# Altium integrated library Maxim Sensors.IntLib: 1171 symbols (part 24 of 61)
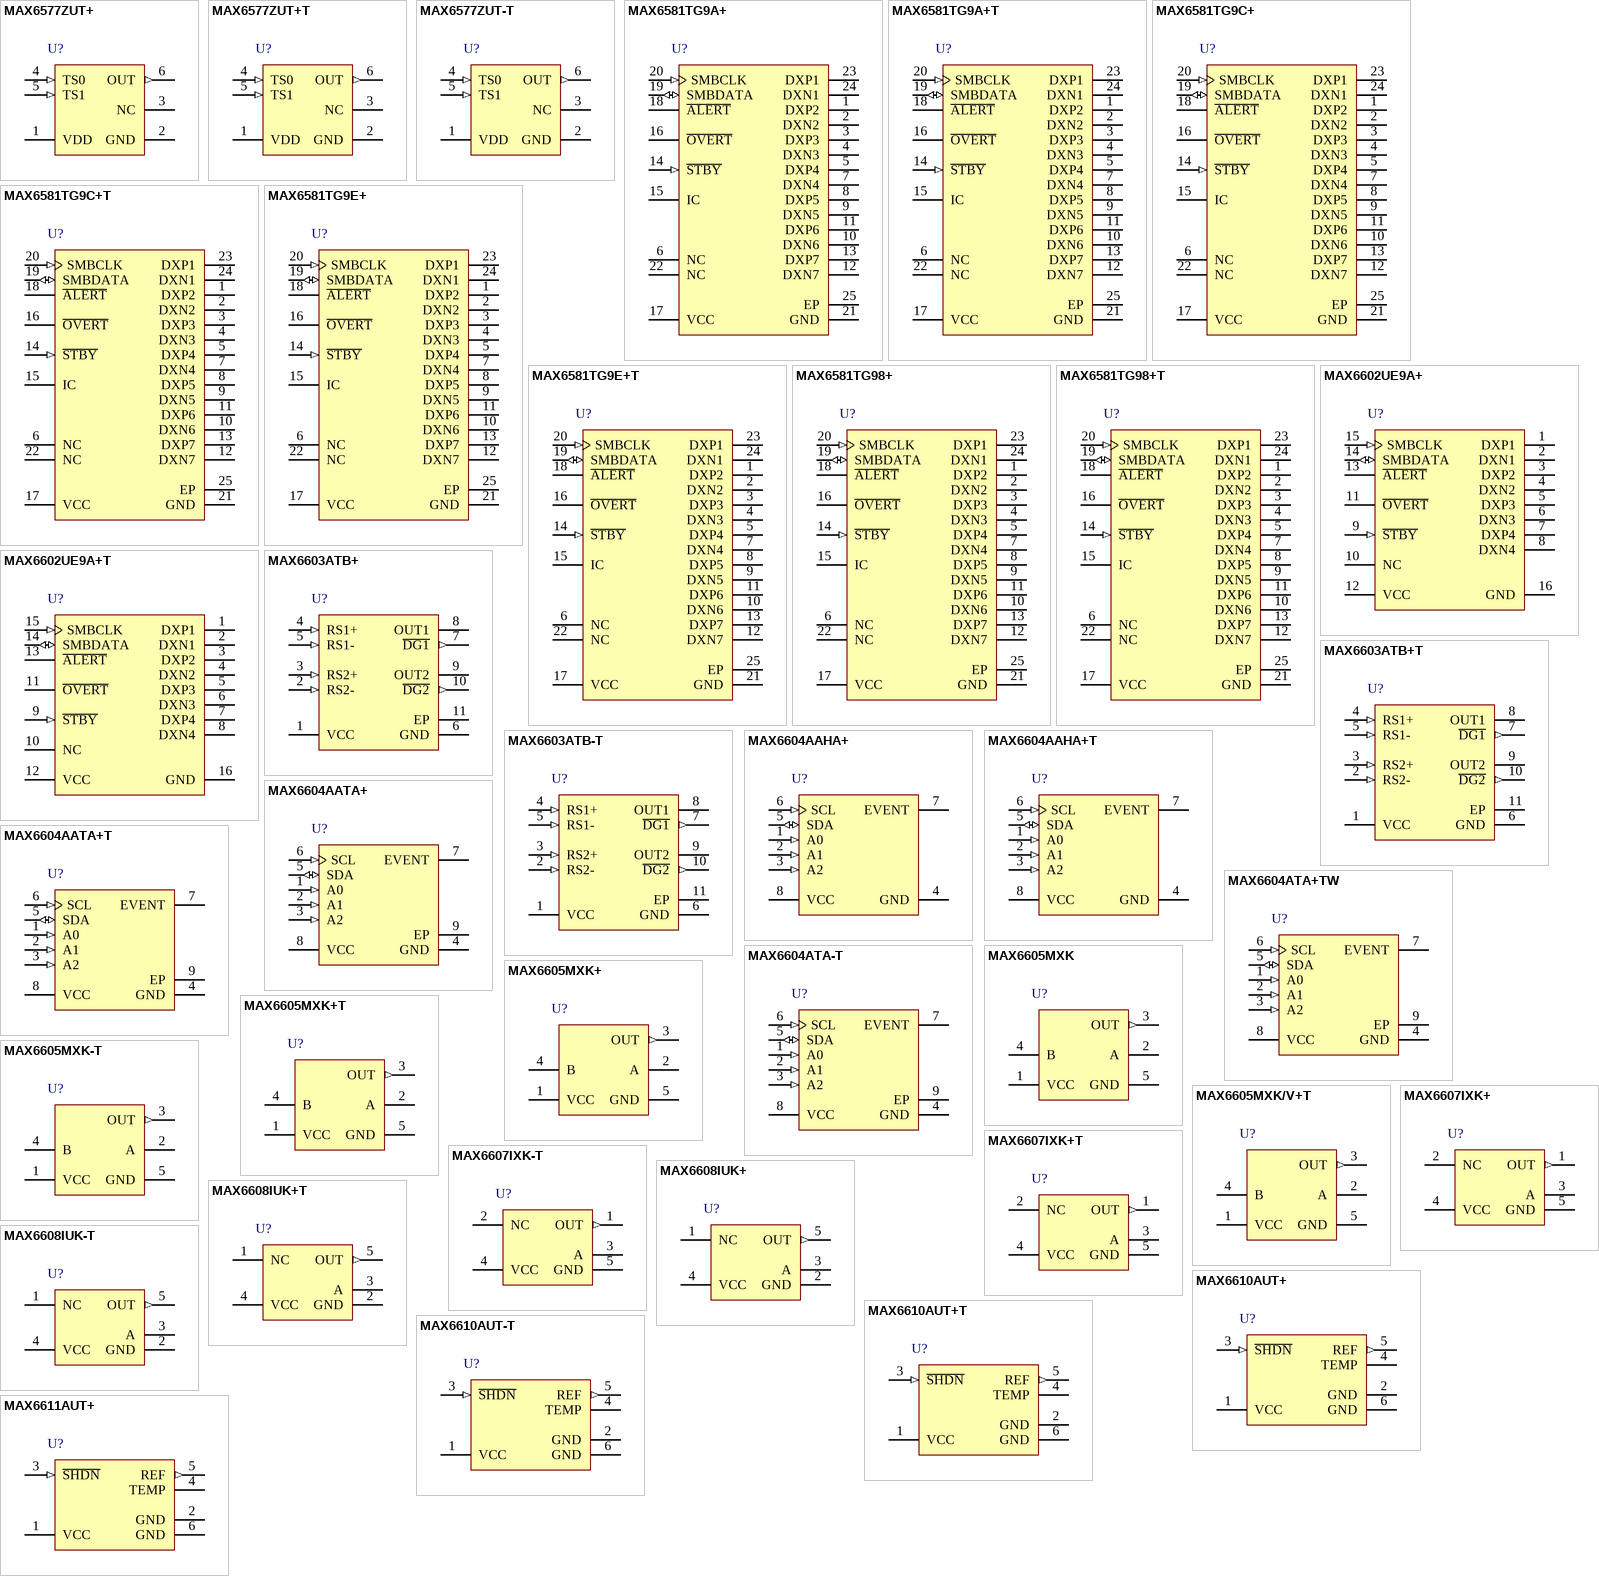
[diagram p56: symbols MAX6577ZUT+ to MAX6611AUT+]

## MAX6581TG9E+T
designator U?
+ / -1 degC Accurate 8-Channel Temperature Sensor, 8, 11 Bits Temperature Resolution, -40 to 125 degC, 24-Pin QFN (T2444+4), Pb-Free, Tape and Reel; Generic Part Number: MAX6581; PartNumber: MAX6581TG9E+T; Alarm Output: Alert, Overt; Functions: Dual Temperature Alarms, Multi-Channel Temperature Monitor ,Remote & Local Sensor; Interface: 2-Wire/I2C/SMBus; Parasite Pwr.: No; DatasheetVersion: Rev. 0; PackageVersion: Rev. L, 04/2012; PackageReference: T2444+4; PackageDescription: 24-Pin Thin Quad Flatpack, No Leads, Body 4 x 4 mm, Pitch 0.5 mm; Supplier 1: Digi-Key; Supplier Part Number 1: MAX6581TG9E+T-ND; Supplier 2: Mouser; Supplier Part Number 2: 700-MAX6581TG9E+T; Packing: Tape and Reel; Mounting Technology: Surface Mount; Code_JEDEC: MO-220; ComponentLink1Description: Manufacturer URL; ComponentLink1URL: http://www.maximintegrated.com/; ComponentLink2Description: Datasheet; ComponentLink2URL: http://datasheets.maximintegrated.com/en/ds/MAX6581.pdf; ComponentLink3Description: Package Specification; ComponentLink3URL: http://pdfserv.maximintegrated.com/package_dwgs/21-0139.PDF
footprint MAXM-T2444+4_N (QFN, 24-Leads, Body 4x3.9mm, Pitch 0.5mm, Thermal Pad 2.54x2.54mm, IPC Medium Density)
footprint MAXM-T2444+4_L (QFN, 24-Leads, Body 4x3.9mm, Pitch 0.5mm, Thermal Pad 2.54x2.54mm, IPC High Density)
footprint MAXM-T2444+4_M (QFN, 24-Leads, Body 4x3.9mm, Pitch 0.5mm, Thermal Pad 2.54x2.54mm, IPC Low Density)
pins: 1 DXP2 "Combined Current Source and ADC Positive Input for Channel 2 Remote Diode. Connect DXP2 to the anode of a remote-diode-connected, temperature-sensing transistor. Leave DXP2 unconnected or connect to DXN2 if a remote diode is (See Datasheet)", 2 DXN2 "Cathode Input for Channel 2 Remote Diode. Connect the cathode of the channel 2 remote-diodeconnected transistor to DXN2. If the channel 2 remote transistor is a substrate pnp (e.g., on a CPU die), connect the base of the pnp (See Datasheet)", 3 DXP3 "Combined Current Source and ADC Positive Input for Channel 3 Remote Diode. Connect DXP3 to the anode of a remote-diode-connected, temperature-sensing transistor. Leave DXP3 unconnected or connect to DXN3 if a remote diode is (See Datasheet)", 4 DXN3 "Cathode Input for Channel 3 Remote Diode. Connect the cathode of the channel 3 remote-diodeconnected transistor to DXN3. If the channel 3 remote transistor is a substrate pnp (e.g., on a CPU die), connect the base of the pnp (See Datasheet)", 5 DXP4 "Combined Current Source and ADC Positive Input for Channel 4 Remote Diode. Connect DXP4 to the anode of a remote-diode-connected, temperature-sensing transistor. Leave DXP4 unconnected or connect to DXN4 if a remote diode is (See Datasheet)", 6 NC "No Connection. Connect to other N.C. or leave unconnected", 7 DXN4 "Cathode Input for Channel 4 Remote Diode. Connect the cathode of the channel 4 remote-diodeconnected transistor to DXN4. If the channel 4 remote transistor is a substrate pnp (e.g., on a CPU die), connect the base of the pnp (See Datasheet)", 8 DXP5 "Combined Current Source and ADC Positive Input for Channel 5 Remote Diode. Connect DXP5 to the anode of a remote-diode-connected, temperature-sensing transistor. Leave DXP5 unconnected or connect to DXN5 if a remote diode is (See Datasheet)", 9 DXN5 "Cathode Input for Channel 5 Remote Diode. Connect the cathode of the channel 5 remote-diodeconnected transistor to DXN5. If the channel 5 remote transistor is a substrate pnp (e.g., on a CPU die), connect the base of the pnp (See Datasheet)", 10 DXN6 "Cathode Input for Channel 6 Remote Diode. Connect the cathode of the channel 6 remote-diodeconnected transistor to DXN6. If the channel 6 remote transistor is a substrate pnp (e.g., on a CPU die), connect the base of the pnp (See Datasheet)", 11 DXP6 "Combined Current Source and ADC Positive Input for Channel 6 Remote Diode. Connect DXP6 to the anode of a remote-diode-connected, temperature-sensing transistor. Leave DXP6 unconnected or connect to DXN6 if a remote diode is (See Datasheet)", 12 DXN7 "Cathode Input for Channel 7 Remote Diode. Connect the cathode of the channel 7 remote-diodeconnected transistor to DXN7. If the channel 7 remote transistor is a substrate pnp (e.g., on a CPU die), connect the base of the pnp (See Datasheet)", 13 DXP7 "Combined Current Source and ADC Positive Input for Channel 7 Remote Diode. Connect DXP7 to the anode of a remote-diode-connected, temperature-sensing transistor. Leave DXP7 unconnected or connect to DXN7 if a remote diode is (See Datasheet)", 14 ~{STBY} (in) "Active-Low Standby Input. Drive S\T\B\Y\ logic-low to place the MAX6581 in standby mode, or logichigh for normal mode. Temperature and threshold data are retained in standby mode.", 15 IC "Internally Connected. I.C. is internally connected to VCC. Connect I.C. to VCC or leave unconnected", 16 ~{OVERT} (oc) "Overtemperature Active-Low, Open-Drain Output. O\V\E\R\T\ asserts low when the temperature of any remote channel exceeds the programmed threshold limit.", 17 VCC (power) "Supply Voltage Input. Bypass to GND with a 0.1FF capacitor.", 18 ~{ALERT} (oc) "SMBus Alert (Interrupt), Active-Low, Open-Drain Output. A\L\E\R\T\ asserts low when the temperature of any channel crosses a programmed A\L\E\R\T\ high or low threshold.", 19 SMBDATA (io) "SMBus Serial-Data Input/Output. Connect SMBDATA to a pullup resistor.", 20 SMBCLK (in) "SMBus Serial-Clock Input. Connect SMBCLK to a pullup resistor.", 21 GND (power) "Ground", 22 NC "No Connection. Connect to other N.C. or leave unconnected", 23 DXP1 "Combined Current Source and ADC Positive Input for Channel 1 Remote Diode. Connect DXP1 to the anode of a remote-diode-connected, temperature-sensing transistor. Leave DXP1 unconnected or connect to DXN1 if a remote diode is (See Datasheet)", 24 DXN1 "Cathode Input for Channel 1 Remote Diode. Connect the cathode of the channel 1 remote-diodeconnected transistor to DXN1. If the channel 1 remote transistor is a substrate pnp (e.g., on a CPU die), connect the base of the pnp (See Datasheet)", 25 EP (power) "Exposed Pad. Connect EP to GND"

## MAX6581TG98+
designator U?
+ / -1 degC Accurate 8-Channel Temperature Sensor, 8, 11 Bits Temperature Resolution, -40 to 125 degC, 24-Pin QFN (T2444+4), Pb-Free; Generic Part Number: MAX6581; PartNumber: MAX6581TG98+; Alarm Output: Alert, Overt; Functions: Dual Temperature Alarms, Multi-Channel Temperature Monitor ,Remote & Local Sensor; Interface: 2-Wire/I2C/SMBus; Parasite Pwr.: No; DatasheetVersion: Rev. 0; PackageVersion: Rev. L, 04/2012; PackageReference: T2444+4; PackageDescription: 24-Pin Thin Quad Flatpack, No Leads, Body 4 x 4 mm, Pitch 0.5 mm; Supplier 1: Digi-Key; Supplier Part Number 1: MAX6581TG98+-ND; Supplier 2: Mouser; Supplier Part Number 2: 700-MAX6581TG98+; Mounting Technology: Surface Mount; Code_JEDEC: MO-220; ComponentLink1Description: Manufacturer URL; ComponentLink1URL: http://www.maximintegrated.com/; ComponentLink2Description: Datasheet; ComponentLink2URL: http://datasheets.maximintegrated.com/en/ds/MAX6581.pdf; ComponentLink3Description: Package Specification; ComponentLink3URL: http://pdfserv.maximintegrated.com/package_dwgs/21-0139.PDF
footprint MAXM-T2444+4_N (QFN, 24-Leads, Body 4x3.9mm, Pitch 0.5mm, Thermal Pad 2.54x2.54mm, IPC Medium Density)
footprint MAXM-T2444+4_L (QFN, 24-Leads, Body 4x3.9mm, Pitch 0.5mm, Thermal Pad 2.54x2.54mm, IPC High Density)
footprint MAXM-T2444+4_M (QFN, 24-Leads, Body 4x3.9mm, Pitch 0.5mm, Thermal Pad 2.54x2.54mm, IPC Low Density)
pins: 1 DXP2 "Combined Current Source and ADC Positive Input for Channel 2 Remote Diode. Connect DXP2 to the anode of a remote-diode-connected, temperature-sensing transistor. Leave DXP2 unconnected or connect to DXN2 if a remote diode is (See Datasheet)", 2 DXN2 "Cathode Input for Channel 2 Remote Diode. Connect the cathode of the channel 2 remote-diodeconnected transistor to DXN2. If the channel 2 remote transistor is a substrate pnp (e.g., on a CPU die), connect the base of the pnp (See Datasheet)", 3 DXP3 "Combined Current Source and ADC Positive Input for Channel 3 Remote Diode. Connect DXP3 to the anode of a remote-diode-connected, temperature-sensing transistor. Leave DXP3 unconnected or connect to DXN3 if a remote diode is (See Datasheet)", 4 DXN3 "Cathode Input for Channel 3 Remote Diode. Connect the cathode of the channel 3 remote-diodeconnected transistor to DXN3. If the channel 3 remote transistor is a substrate pnp (e.g., on a CPU die), connect the base of the pnp (See Datasheet)", 5 DXP4 "Combined Current Source and ADC Positive Input for Channel 4 Remote Diode. Connect DXP4 to the anode of a remote-diode-connected, temperature-sensing transistor. Leave DXP4 unconnected or connect to DXN4 if a remote diode is (See Datasheet)", 6 NC "No Connection. Connect to other N.C. or leave unconnected", 7 DXN4 "Cathode Input for Channel 4 Remote Diode. Connect the cathode of the channel 4 remote-diodeconnected transistor to DXN4. If the channel 4 remote transistor is a substrate pnp (e.g., on a CPU die), connect the base of the pnp (See Datasheet)", 8 DXP5 "Combined Current Source and ADC Positive Input for Channel 5 Remote Diode. Connect DXP5 to the anode of a remote-diode-connected, temperature-sensing transistor. Leave DXP5 unconnected or connect to DXN5 if a remote diode is (See Datasheet)", 9 DXN5 "Cathode Input for Channel 5 Remote Diode. Connect the cathode of the channel 5 remote-diodeconnected transistor to DXN5. If the channel 5 remote transistor is a substrate pnp (e.g., on a CPU die), connect the base of the pnp (See Datasheet)", 10 DXN6 "Cathode Input for Channel 6 Remote Diode. Connect the cathode of the channel 6 remote-diodeconnected transistor to DXN6. If the channel 6 remote transistor is a substrate pnp (e.g., on a CPU die), connect the base of the pnp (See Datasheet)", 11 DXP6 "Combined Current Source and ADC Positive Input for Channel 6 Remote Diode. Connect DXP6 to the anode of a remote-diode-connected, temperature-sensing transistor. Leave DXP6 unconnected or connect to DXN6 if a remote diode is (See Datasheet)", 12 DXN7 "Cathode Input for Channel 7 Remote Diode. Connect the cathode of the channel 7 remote-diodeconnected transistor to DXN7. If the channel 7 remote transistor is a substrate pnp (e.g., on a CPU die), connect the base of the pnp (See Datasheet)", 13 DXP7 "Combined Current Source and ADC Positive Input for Channel 7 Remote Diode. Connect DXP7 to the anode of a remote-diode-connected, temperature-sensing transistor. Leave DXP7 unconnected or connect to DXN7 if a remote diode is (See Datasheet)", 14 ~{STBY} (in) "Active-Low Standby Input. Drive S\T\B\Y\ logic-low to place the MAX6581 in standby mode, or logichigh for normal mode. Temperature and threshold data are retained in standby mode.", 15 IC "Internally Connected. I.C. is internally connected to VCC. Connect I.C. to VCC or leave unconnected", 16 ~{OVERT} (oc) "Overtemperature Active-Low, Open-Drain Output. O\V\E\R\T\ asserts low when the temperature of any remote channel exceeds the programmed threshold limit.", 17 VCC (power) "Supply Voltage Input. Bypass to GND with a 0.1FF capacitor.", 18 ~{ALERT} (oc) "SMBus Alert (Interrupt), Active-Low, Open-Drain Output. A\L\E\R\T\ asserts low when the temperature of any channel crosses a programmed A\L\E\R\T\ high or low threshold.", 19 SMBDATA (io) "SMBus Serial-Data Input/Output. Connect SMBDATA to a pullup resistor.", 20 SMBCLK (in) "SMBus Serial-Clock Input. Connect SMBCLK to a pullup resistor.", 21 GND (power) "Ground", 22 NC "No Connection. Connect to other N.C. or leave unconnected", 23 DXP1 "Combined Current Source and ADC Positive Input for Channel 1 Remote Diode. Connect DXP1 to the anode of a remote-diode-connected, temperature-sensing transistor. Leave DXP1 unconnected or connect to DXN1 if a remote diode is (See Datasheet)", 24 DXN1 "Cathode Input for Channel 1 Remote Diode. Connect the cathode of the channel 1 remote-diodeconnected transistor to DXN1. If the channel 1 remote transistor is a substrate pnp (e.g., on a CPU die), connect the base of the pnp (See Datasheet)", 25 EP (power) "Exposed Pad. Connect EP to GND"

## MAX6581TG98+T
designator U?
+ / -1 degC Accurate 8-Channel Temperature Sensor, 8, 11 Bits Temperature Resolution, -40 to 125 degC, 24-Pin QFN (T2444+4), Pb-Free, Tape and Reel; Generic Part Number: MAX6581; PartNumber: MAX6581TG98+T; Alarm Output: Alert, Overt; Functions: Dual Temperature Alarms, Multi-Channel Temperature Monitor ,Remote & Local Sensor; Interface: 2-Wire/I2C/SMBus; Parasite Pwr.: No; DatasheetVersion: Rev. 0; PackageVersion: Rev. L, 04/2012; PackageReference: T2444+4; PackageDescription: 24-Pin Thin Quad Flatpack, No Leads, Body 4 x 4 mm, Pitch 0.5 mm; Supplier 1: Digi-Key; Supplier Part Number 1: MAX6581TG98+T-ND; Supplier 2: Mouser; Supplier Part Number 2: 700-MAX6581TG98+T; Packing: Tape and Reel; Mounting Technology: Surface Mount; Code_JEDEC: MO-220; ComponentLink1Description: Manufacturer URL; ComponentLink1URL: http://www.maximintegrated.com/; ComponentLink2Description: Datasheet; ComponentLink2URL: http://datasheets.maximintegrated.com/en/ds/MAX6581.pdf; ComponentLink3Description: Package Specification; ComponentLink3URL: http://pdfserv.maximintegrated.com/package_dwgs/21-0139.PDF
footprint MAXM-T2444+4_N (QFN, 24-Leads, Body 4x3.9mm, Pitch 0.5mm, Thermal Pad 2.54x2.54mm, IPC Medium Density)
footprint MAXM-T2444+4_L (QFN, 24-Leads, Body 4x3.9mm, Pitch 0.5mm, Thermal Pad 2.54x2.54mm, IPC High Density)
footprint MAXM-T2444+4_M (QFN, 24-Leads, Body 4x3.9mm, Pitch 0.5mm, Thermal Pad 2.54x2.54mm, IPC Low Density)
pins: 1 DXP2 "Combined Current Source and ADC Positive Input for Channel 2 Remote Diode. Connect DXP2 to the anode of a remote-diode-connected, temperature-sensing transistor. Leave DXP2 unconnected or connect to DXN2 if a remote diode is (See Datasheet)", 2 DXN2 "Cathode Input for Channel 2 Remote Diode. Connect the cathode of the channel 2 remote-diodeconnected transistor to DXN2. If the channel 2 remote transistor is a substrate pnp (e.g., on a CPU die), connect the base of the pnp (See Datasheet)", 3 DXP3 "Combined Current Source and ADC Positive Input for Channel 3 Remote Diode. Connect DXP3 to the anode of a remote-diode-connected, temperature-sensing transistor. Leave DXP3 unconnected or connect to DXN3 if a remote diode is (See Datasheet)", 4 DXN3 "Cathode Input for Channel 3 Remote Diode. Connect the cathode of the channel 3 remote-diodeconnected transistor to DXN3. If the channel 3 remote transistor is a substrate pnp (e.g., on a CPU die), connect the base of the pnp (See Datasheet)", 5 DXP4 "Combined Current Source and ADC Positive Input for Channel 4 Remote Diode. Connect DXP4 to the anode of a remote-diode-connected, temperature-sensing transistor. Leave DXP4 unconnected or connect to DXN4 if a remote diode is (See Datasheet)", 6 NC "No Connection. Connect to other N.C. or leave unconnected", 7 DXN4 "Cathode Input for Channel 4 Remote Diode. Connect the cathode of the channel 4 remote-diodeconnected transistor to DXN4. If the channel 4 remote transistor is a substrate pnp (e.g., on a CPU die), connect the base of the pnp (See Datasheet)", 8 DXP5 "Combined Current Source and ADC Positive Input for Channel 5 Remote Diode. Connect DXP5 to the anode of a remote-diode-connected, temperature-sensing transistor. Leave DXP5 unconnected or connect to DXN5 if a remote diode is (See Datasheet)", 9 DXN5 "Cathode Input for Channel 5 Remote Diode. Connect the cathode of the channel 5 remote-diodeconnected transistor to DXN5. If the channel 5 remote transistor is a substrate pnp (e.g., on a CPU die), connect the base of the pnp (See Datasheet)", 10 DXN6 "Cathode Input for Channel 6 Remote Diode. Connect the cathode of the channel 6 remote-diodeconnected transistor to DXN6. If the channel 6 remote transistor is a substrate pnp (e.g., on a CPU die), connect the base of the pnp (See Datasheet)", 11 DXP6 "Combined Current Source and ADC Positive Input for Channel 6 Remote Diode. Connect DXP6 to the anode of a remote-diode-connected, temperature-sensing transistor. Leave DXP6 unconnected or connect to DXN6 if a remote diode is (See Datasheet)", 12 DXN7 "Cathode Input for Channel 7 Remote Diode. Connect the cathode of the channel 7 remote-diodeconnected transistor to DXN7. If the channel 7 remote transistor is a substrate pnp (e.g., on a CPU die), connect the base of the pnp (See Datasheet)", 13 DXP7 "Combined Current Source and ADC Positive Input for Channel 7 Remote Diode. Connect DXP7 to the anode of a remote-diode-connected, temperature-sensing transistor. Leave DXP7 unconnected or connect to DXN7 if a remote diode is (See Datasheet)", 14 ~{STBY} (in) "Active-Low Standby Input. Drive S\T\B\Y\ logic-low to place the MAX6581 in standby mode, or logichigh for normal mode. Temperature and threshold data are retained in standby mode.", 15 IC "Internally Connected. I.C. is internally connected to VCC. Connect I.C. to VCC or leave unconnected", 16 ~{OVERT} (oc) "Overtemperature Active-Low, Open-Drain Output. O\V\E\R\T\ asserts low when the temperature of any remote channel exceeds the programmed threshold limit.", 17 VCC (power) "Supply Voltage Input. Bypass to GND with a 0.1FF capacitor.", 18 ~{ALERT} (oc) "SMBus Alert (Interrupt), Active-Low, Open-Drain Output. A\L\E\R\T\ asserts low when the temperature of any channel crosses a programmed A\L\E\R\T\ high or low threshold.", 19 SMBDATA (io) "SMBus Serial-Data Input/Output. Connect SMBDATA to a pullup resistor.", 20 SMBCLK (in) "SMBus Serial-Clock Input. Connect SMBCLK to a pullup resistor.", 21 GND (power) "Ground", 22 NC "No Connection. Connect to other N.C. or leave unconnected", 23 DXP1 "Combined Current Source and ADC Positive Input for Channel 1 Remote Diode. Connect DXP1 to the anode of a remote-diode-connected, temperature-sensing transistor. Leave DXP1 unconnected or connect to DXN1 if a remote diode is (See Datasheet)", 24 DXN1 "Cathode Input for Channel 1 Remote Diode. Connect the cathode of the channel 1 remote-diodeconnected transistor to DXN1. If the channel 1 remote transistor is a substrate pnp (e.g., on a CPU die), connect the base of the pnp (See Datasheet)", 25 EP (power) "Exposed Pad. Connect EP to GND"

## MAX6602UE9A+
designator U?
Five-Channel Temperature Monitor, 11 Bits Temperature Resolution, -40 to 125 degC, 16-Pin SOP (U16+1), Pb-Free; Generic Part Number: MAX6602; PartNumber: MAX6602UE9A+; Alarm Output: Alert, Overt; Functions: Dual Temperature Alarms, Multi-Channel Temperature Monitor, Remote & Local Sensor; Interface: 2-Wire/I2C/SMBus; Parasite Pwr.: No; DatasheetVersion: Rev. 1; PackageVersion: Rev. L, 07/2010; PackageReference: U16+1; PackageDescription: 16-Pin Thin Shrink Small-Outline Package (U16+1), Body 5 x 4.4 mm, Pitch 0.65 mm; Supplier 1: Digi-Key; Supplier Part Number 1: MAX6602UE9A+-ND; Supplier 2: Mouser; Supplier Part Number 2: 700-MAX6602UE9A; Mounting Technology: Surface Mount; Code_JEDEC: MO-153; ComponentLink1Description: Manufacturer URL; ComponentLink1URL: http://www.maximintegrated.com/; ComponentLink2Description: Datasheet; ComponentLink2URL: http://datasheets.maximintegrated.com/en/ds/MAX6602.pdf; ComponentLink3Description: Package Specification; ComponentLink3URL: http://pdfserv.maximintegrated.com/package_dwgs/21-0066.PDF
footprint MAXM-U16+1_N (SOP, 16-Leads, Body 5x4.4mm, Pitch 0.65mm, IPC Medium Density)
footprint MAXM-U16+1_L (SOP, 16-Leads, Body 5x4.4mm, Pitch 0.65mm, IPC High Density)
footprint MAXM-U16+1_M (SOP, 16-Leads, Body 5x4.4mm, Pitch 0.65mm, IPC Low Density)
pins: 1 DXP1 "Combined Current Source and A/D Positive Input for Channel 1 Remote Transistor. Connect to the emitter of a low beta transistor. Leave unconnected or connect to VCC if no remote transistor is used. Place a 100pF capacitor (See Datasheet)", 2 DXN1 "Base Input for Channel 1 Remote Diode. Connect to the base of a pnp temperature-sensing transistor.", 3 DXP2 "Combined Current Source and A/D Positive Input for Channel 2 Remote Diode. Connect to the anode of a remote-diode-connected temperature-sensing transistor. Leave unconnected or connect to VCC if no remote diode is used. (See Datasheet)", 4 DXN2 "Cathode Input for Channel 2 Remote Diode. Connect the cathode of the channel 2 remote-diode-connected transistor to DXN2.", 5 DXP3 "Combined Current Source and A/D Positive Input for Channel 3 Remote Diode. Connect to the anode of a remote-diode-connected temperature-sensing transistor. Leave unconnected or connect to VCC if no remote diode is used. (See Datasheet)", 6 DXN3 "Cathode Input for Channel 3 Remote Diode. Connect the cathode of the channel 3 remote-diode-connected transistor to DXN3.", 7 DXP4 "Combined Current Source and A/D Positive Input for Channel 4 Remote Diode. Connect to the anode of a remote-diode-connected temperature-sensing transistor. Leave unconnected or connect to VCC if no remote diode is used. (See Datasheet)", 8 DXN4 "Cathode Input for Channel 4 Remote Diode. Connect the cathode of the channel 4 remote-diode-connected transistor to DXN4.", 9 ~{STBY} (in) "Active-Low Standby Input. Drive S\T\B\Y\ low to place the MAX6694 in standby mode, or high for operate mode. Temperature and threshold data are retained in standby mode.", 10 NC "No Connection. Must be connected to ground.", 11 ~{OVERT} (oc) "Overtemperature Active-Low, Open-Drain Output. O\V\E\R\T\ asserts low when the temperature of channels 1 and 4 exceeds the programmed threshold limit.", 12 VCC (power) "Supply Voltage Input. Bypass to GND with a 0.1uF capacitor.", 13 ~{ALERT} (oc) "SMBus Alert (Interrupt), Active-Low, Open-Drain Output. A\L\E\R\T\ asserts low when the temperature of any channel exceeds the programmed A\L\E\R\T\ threshold.", 14 SMBDATA (io) "SMBus Serial Data Input/Output. Connect to a pullup resistor.", 15 SMBCLK (in) "SMBus Serial Clock Input. Connect to a pullup resistor.", 16 GND (power) "Ground"

## MAX6602UE9A+T
designator U?
Five-Channel Temperature Monitor, 11 Bits Temperature Resolution, -40 to 125 degC, 16-Pin SOP (U16+1), Pb-Free, Tape and Reel; Generic Part Number: MAX6602; PartNumber: MAX6602UE9A+T; Alarm Output: Alert, Overt; Functions: Dual Temperature Alarms, Multi-Channel Temperature Monitor, Remote & Local Sensor; Interface: 2-Wire/I2C/SMBus; Parasite Pwr.: No; DatasheetVersion: Rev. 1; PackageVersion: Rev. L, 07/2010; PackageReference: U16+1; PackageDescription: 16-Pin Thin Shrink Small-Outline Package (U16+1), Body 5 x 4.4 mm, Pitch 0.65 mm; Supplier 1: Digi-Key; Supplier Part Number 1: MAX6602UE9A+T-ND; Supplier 2: Mouser; Supplier Part Number 2: 700-MAX6602UE9AT; Packing: Tape and Reel; Mounting Technology: Surface Mount; Code_JEDEC: MO-153; ComponentLink1Description: Manufacturer URL; ComponentLink1URL: http://www.maximintegrated.com/; ComponentLink2Description: Datasheet; ComponentLink2URL: http://datasheets.maximintegrated.com/en/ds/MAX6602.pdf; ComponentLink3Description: Package Specification; ComponentLink3URL: http://pdfserv.maximintegrated.com/package_dwgs/21-0066.PDF
footprint MAXM-U16+1_N (SOP, 16-Leads, Body 5x4.4mm, Pitch 0.65mm, IPC Medium Density)
footprint MAXM-U16+1_L (SOP, 16-Leads, Body 5x4.4mm, Pitch 0.65mm, IPC High Density)
footprint MAXM-U16+1_M (SOP, 16-Leads, Body 5x4.4mm, Pitch 0.65mm, IPC Low Density)
pins: 1 DXP1 "Combined Current Source and A/D Positive Input for Channel 1 Remote Transistor. Connect to the emitter of a low beta transistor. Leave unconnected or connect to VCC if no remote transistor is used. Place a 100pF capacitor (See Datasheet)", 2 DXN1 "Base Input for Channel 1 Remote Diode. Connect to the base of a pnp temperature-sensing transistor.", 3 DXP2 "Combined Current Source and A/D Positive Input for Channel 2 Remote Diode. Connect to the anode of a remote-diode-connected temperature-sensing transistor. Leave unconnected or connect to VCC if no remote diode is used. (See Datasheet)", 4 DXN2 "Cathode Input for Channel 2 Remote Diode. Connect the cathode of the channel 2 remote-diode-connected transistor to DXN2.", 5 DXP3 "Combined Current Source and A/D Positive Input for Channel 3 Remote Diode. Connect to the anode of a remote-diode-connected temperature-sensing transistor. Leave unconnected or connect to VCC if no remote diode is used. (See Datasheet)", 6 DXN3 "Cathode Input for Channel 3 Remote Diode. Connect the cathode of the channel 3 remote-diode-connected transistor to DXN3.", 7 DXP4 "Combined Current Source and A/D Positive Input for Channel 4 Remote Diode. Connect to the anode of a remote-diode-connected temperature-sensing transistor. Leave unconnected or connect to VCC if no remote diode is used. (See Datasheet)", 8 DXN4 "Cathode Input for Channel 4 Remote Diode. Connect the cathode of the channel 4 remote-diode-connected transistor to DXN4.", 9 ~{STBY} (in) "Active-Low Standby Input. Drive S\T\B\Y\ low to place the MAX6694 in standby mode, or high for operate mode. Temperature and threshold data are retained in standby mode.", 10 NC "No Connection. Must be connected to ground.", 11 ~{OVERT} (oc) "Overtemperature Active-Low, Open-Drain Output. O\V\E\R\T\ asserts low when the temperature of channels 1 and 4 exceeds the programmed threshold limit.", 12 VCC (power) "Supply Voltage Input. Bypass to GND with a 0.1uF capacitor.", 13 ~{ALERT} (oc) "SMBus Alert (Interrupt), Active-Low, Open-Drain Output. A\L\E\R\T\ asserts low when the temperature of any channel exceeds the programmed A\L\E\R\T\ threshold.", 14 SMBDATA (io) "SMBus Serial Data Input/Output. Connect to a pullup resistor.", 15 SMBCLK (in) "SMBus Serial Clock Input. Connect to a pullup resistor.", 16 GND (power) "Ground"

## MAX6603ATB+
designator U?
2-Channel Platinum RTD-to-Voltage Signal Conditioner, -40 to 125 degC, 10-Pin SON (T1033+1), Pb-Free; Generic Part Number: MAX6603; PartNumber: MAX6603ATB+; Functions: RTD to Voltage Signal Conditioner; Interface: Analog; Parasite Pwr.: No; DatasheetVersion: Rev. 0; PackageVersion: Rev. J, 08/2009; PackageReference: T1033+1; PackageDescription: 10-Pin Plastic Very Very Thin Dual Flatpack No Leads, Exposed Pad (T1033+1), Body 3 x 3 mm, Pitch 0.5 mm; Supplier 1: Mouser; Supplier Part Number 1: N/A; Mounting Technology: Surface Mount; Code_JEDEC: MO229; ComponentLink1Description: Manufacturer URL; ComponentLink1URL: http://www.maximintegrated.com/; ComponentLink2Description: Datasheet; ComponentLink2URL: http://datasheets.maximintegrated.com/en/ds/MAX6603.pdf; ComponentLink3Description: Package Specification; ComponentLink3URL: http://pdfserv.maximintegrated.com/package_dwgs/21-0137.PDF
footprint MAXM-T1033+1_V (SON, 10-Leads, Body 3x3mm, Pitch 0.5mm, Thermal Pad 2.35x1.58mm)
pins: 1 VCC (power) "Power-Supply Input. Bypass to GND with a 0.1uF capacitor as close to VCC as possible", 2 RS2- (in) "Sense Resistor 2 Negative Input", 3 RS2+ (in) "Sense Resistor 2 Positive Input", 4 RS1+ (in) "Sense Resistor 1 Positive Input", 5 RS1- (in) "Sense Resistor 1 Negative Input", 6 GND (power) "Ground", 7 ~{DG1} (out) "Diagnostic Output Signal 1. D\G\1\ asserts low upon fault detection", 8 OUT1 (hiz) "Output Analog Voltage 1. OUT1 is high impedance upon D\G\1\ assertion", 9 OUT2 (hiz) "Output Analog Voltage 2. OUT2 is high impedance upon D\G\2\ assertion", 10 ~{DG2} (out) "Diagnostic Output Signal 2. D\G\2\ asserts low upon fault detection", 11 EP (power) "Exposed Pad. Connect to GND"

## MAX6603ATB+T
designator U?
2-Channel Platinum RTD-to-Voltage Signal Conditioner, -40 to 125 degC, 10-Pin SON (T1033+1), Pb-Free, Tape and Reel; Generic Part Number: MAX6603; PartNumber: MAX6603ATB+T; Functions: RTD to Voltage Signal Conditioner; Interface: Analog; Parasite Pwr.: No; DatasheetVersion: Rev. 0; PackageVersion: Rev. J, 08/2009; PackageReference: T1033+1; PackageDescription: 10-Pin Plastic Very Very Thin Dual Flatpack No Leads, Exposed Pad (T1033+1), Body 3 x 3 mm, Pitch 0.5 mm; Supplier 1: Digi-Key; Supplier Part Number 1: MAX6603ATB+T-ND; Supplier 2: Mouser; Supplier Part Number 2: 700-MAX6603ATBT; Packing: Tape and Reel; Mounting Technology: Surface Mount; Code_JEDEC: MO229; ComponentLink1Description: Manufacturer URL; ComponentLink1URL: http://www.maximintegrated.com/; ComponentLink2Description: Datasheet; ComponentLink2URL: http://datasheets.maximintegrated.com/en/ds/MAX6603.pdf; ComponentLink3Description: Package Specification; ComponentLink3URL: http://pdfserv.maximintegrated.com/package_dwgs/21-0137.PDF
footprint MAXM-T1033+1_V (SON, 10-Leads, Body 3x3mm, Pitch 0.5mm, Thermal Pad 2.35x1.58mm)
pins: 1 VCC (power) "Power-Supply Input. Bypass to GND with a 0.1uF capacitor as close to VCC as possible", 2 RS2- (in) "Sense Resistor 2 Negative Input", 3 RS2+ (in) "Sense Resistor 2 Positive Input", 4 RS1+ (in) "Sense Resistor 1 Positive Input", 5 RS1- (in) "Sense Resistor 1 Negative Input", 6 GND (power) "Ground", 7 ~{DG1} (out) "Diagnostic Output Signal 1. D\G\1\ asserts low upon fault detection", 8 OUT1 (hiz) "Output Analog Voltage 1. OUT1 is high impedance upon D\G\1\ assertion", 9 OUT2 (hiz) "Output Analog Voltage 2. OUT2 is high impedance upon D\G\2\ assertion", 10 ~{DG2} (out) "Diagnostic Output Signal 2. D\G\2\ asserts low upon fault detection", 11 EP (power) "Exposed Pad. Connect to GND"

## MAX6603ATB-T
designator U?
2-Channel Platinum RTD-to-Voltage Signal Conditioner, -40 to 125 degC, 10-Pin SON (T1033-1), Tape and Reel; Generic Part Number: MAX6603; PartNumber: MAX6603ATB-T; Functions: RTD to Voltage Signal Conditioner; Interface: Analog; Parasite Pwr.: No; DatasheetVersion: Rev. 0; PackageVersion: Rev. J, 08/2009; PackageReference: T1033-1; PackageDescription: 10-Pin Plastic Very Very Thin Dual Flatpack, Body 3 x 3 mm, Exposed Pad 2.3 x 1.5 mm, Pitch 0.5 mm; Supplier 1: Mouser; Supplier Part Number 1: N/A; Packing: Tape and Reel; Mounting Technology: Surface Mount; Code_JEDEC: MO-229; ComponentLink1Description: Manufacturer URL; ComponentLink1URL: http://www.maximintegrated.com/; ComponentLink2Description: Datasheet; ComponentLink2URL: http://datasheets.maximintegrated.com/en/ds/MAX6603.pdf; ComponentLink3Description: Package Specification; ComponentLink3URL: http://pdfserv.maximintegrated.com/package_dwgs/21-0137.PDF
footprint MAXM-T1033-1_V (SON, 10-Leads, Body 3x3mm, Pitch 0.5mm, Thermal Pad 1.5x2.3mm)
pins: 1 VCC (power) "Power-Supply Input. Bypass to GND with a 0.1uF capacitor as close to VCC as possible", 2 RS2- (in) "Sense Resistor 2 Negative Input", 3 RS2+ (in) "Sense Resistor 2 Positive Input", 4 RS1+ (in) "Sense Resistor 1 Positive Input", 5 RS1- (in) "Sense Resistor 1 Negative Input", 6 GND (power) "Ground", 7 ~{DG1} (out) "Diagnostic Output Signal 1. D\G\1\ asserts low upon fault detection", 8 OUT1 (hiz) "Output Analog Voltage 1. OUT1 is high impedance upon D\G\1\ assertion", 9 OUT2 (hiz) "Output Analog Voltage 2. OUT2 is high impedance upon D\G\2\ assertion", 10 ~{DG2} (out) "Diagnostic Output Signal 2. D\G\2\ asserts low upon fault detection", 11 EP (power) "Exposed Pad. Connect to GND"

## MAX6604AAHA+
designator U?
Temperature sensor for memory modules, 11 Bits Temperature Resolution, -20 to 125 degC, 8-Pin SOP (H8+1), Pb-Free; Generic Part Number: MAX6604; PartNumber: MAX6604AAHA+; Alarm Output: Alert; Interface: 2-Wire/I2C/SMBus; Multi Droppable: Yes; Parasite Pwr.: No; DatasheetVersion: Rev. 3; PackageVersion: Rev. B, 02/2010; PackageReference: H8+1; PackageDescription: 8-Pin Thin Shrink Small-Outline Package, Body 4.4 x 3 mm, Pitch 0.65 mm; Supplier 1: Mouser; Supplier Part Number 1: N/A; Mounting Technology: Surface Mount; Code_JEDEC: MO-153; ComponentLink1Description: Manufacturer URL; ComponentLink1URL: http://www.maximintegrated.com/; ComponentLink2Description: Datasheet; ComponentLink2URL: http://datasheets.maximintegrated.com/en/ds/MAX6604.pdf; ComponentLink3Description: Package Specification; ComponentLink3URL: http://pdfserv.maximintegrated.com/package_dwgs/21-0175.PDF
footprint MAXM-H8+1_N (SOP, 8-Leads, Body 4.4x3mm, Pitch 0.65mm, IPC Medium Density)
footprint MAXM-H8+1_L (SOP, 8-Leads, Body 4.4x3mm, Pitch 0.65mm, IPC High Density)
footprint MAXM-H8+1_M (SOP, 8-Leads, Body 4.4x3mm, Pitch 0.65mm, IPC Low Density)
pins: 1 A0 (in) "Address Input. Must connect to GND or VCC to set value.", 2 A1 (in) "Address Input. Must connect to GND or VCC to set value.", 3 A2 (in) "Address Input. Must connect to GND or VCC to set value.", 4 GND (power) "Ground", 5 SDA (io) "Serial-Data Input/Output. Open drain. Connect to a pullup resistor.", 6 SCL (in) "Serial-Clock Input. Connect to a pullup resistor.", 7 EVENT (hiz) "Event Output. Open drain. Connect to a pullup resistor.", 8 VCC (power) "Supply Voltage. Connect a 0.1uF capacitor to GND as close as possible to the device."

## MAX6604AAHA+T
designator U?
Temperature sensor for memory modules, 11 Bits Temperature Resolution, -20 to 125 degC, 8-Pin SOP (H8+1), Pb-Free, Tape and Reel; Generic Part Number: MAX6604; PartNumber: MAX6604AAHA+T; Alarm Output: Alert; Interface: 2-Wire/I2C/SMBus; Multi Droppable: Yes; Parasite Pwr.: No; DatasheetVersion: Rev. 3; PackageVersion: Rev. B, 02/2010; PackageReference: H8+1; PackageDescription: 8-Pin Thin Shrink Small-Outline Package, Body 4.4 x 3 mm, Pitch 0.65 mm; Supplier 1: Mouser; Supplier Part Number 1: N/A; Packing: Tape and Reel; Mounting Technology: Surface Mount; Code_JEDEC: MO-153; ComponentLink1Description: Manufacturer URL; ComponentLink1URL: http://www.maximintegrated.com/; ComponentLink2Description: Datasheet; ComponentLink2URL: http://datasheets.maximintegrated.com/en/ds/MAX6604.pdf; ComponentLink3Description: Package Specification; ComponentLink3URL: http://pdfserv.maximintegrated.com/package_dwgs/21-0175.PDF
footprint MAXM-H8+1_N (SOP, 8-Leads, Body 4.4x3mm, Pitch 0.65mm, IPC Medium Density)
footprint MAXM-H8+1_L (SOP, 8-Leads, Body 4.4x3mm, Pitch 0.65mm, IPC High Density)
footprint MAXM-H8+1_M (SOP, 8-Leads, Body 4.4x3mm, Pitch 0.65mm, IPC Low Density)
pins: 1 A0 (in) "Address Input. Must connect to GND or VCC to set value.", 2 A1 (in) "Address Input. Must connect to GND or VCC to set value.", 3 A2 (in) "Address Input. Must connect to GND or VCC to set value.", 4 GND (power) "Ground", 5 SDA (io) "Serial-Data Input/Output. Open drain. Connect to a pullup resistor.", 6 SCL (in) "Serial-Clock Input. Connect to a pullup resistor.", 7 EVENT (hiz) "Event Output. Open drain. Connect to a pullup resistor.", 8 VCC (power) "Supply Voltage. Connect a 0.1uF capacitor to GND as close as possible to the device."

## MAX6604AATA+
designator U?
Temperature sensor for memory modules, 11 Bits Temperature Resolution, -20 to 125 degC, 8-Pin SON (T823+1), Pb-Free; Generic Part Number: MAX6604; PartNumber: MAX6604AATA+; Alarm Output: Alert; Interface: 2-Wire/I2C/SMBus; Multi Droppable: Yes; Parasite Pwr.: No; DatasheetVersion: Rev. 3; PackageVersion: Rev. C, 04/2011; PackageReference: T823+1; PackageDescription: 8-Pin Plastic Very Very Thin Dual Flatpack No Leads, Body 3 x 2 mm, Exposed Pad 1.63 x 1.75 mm, Pitch 0.5 mm; Supplier 1: Mouser; Supplier Part Number 1: N/A; Mounting Technology: Surface Mount; Code_JEDEC: MO-229; ComponentLink1Description: Manufacturer URL; ComponentLink1URL: http://www.maximintegrated.com/; ComponentLink2Description: Datasheet; ComponentLink2URL: http://datasheets.maximintegrated.com/en/ds/MAX6604.pdf; ComponentLink3Description: Package Specification; ComponentLink3URL: http://pdfserv.maximintegrated.com/package_dwgs/21-0174.PDF
footprint MAXM-T823+1_V (SON, 8-Leads, Body 3x2mm, Pitch 0.5mm, Thermal Pad 1.75X1.63mm)
pins: 1 A0 (in) "Address Input. Must connect to GND or VCC to set value.", 2 A1 (in) "Address Input. Must connect to GND or VCC to set value.", 3 A2 (in) "Address Input. Must connect to GND or VCC to set value.", 4 GND (power) "Ground", 5 SDA (io) "Serial-Data Input/Output. Open drain. Connect to a pullup resistor.", 6 SCL (in) "Serial-Clock Input. Connect to a pullup resistor.", 7 EVENT (hiz) "Event Output. Open drain. Connect to a pullup resistor.", 8 VCC (power) "Supply Voltage. Connect a 0.1uF capacitor to GND as close as possible to the device.", 9 EP (power) "Exposed Pad (TDFN only). Internally connected to GND. Connect EP to a large PCB ground plane."

## MAX6604AATA+T
designator U?
Temperature sensor for memory modules, 11 Bits Temperature Resolution, -20 to 125 degC, 8-Pin SON (T823+1), Pb-Free, Tape and Reel; Generic Part Number: MAX6604; PartNumber: MAX6604AATA+T; Alarm Output: Alert; Interface: 2-Wire/I2C/SMBus; Multi Droppable: Yes; Parasite Pwr.: No; DatasheetVersion: Rev. 3; PackageVersion: Rev. C, 04/2011; PackageReference: T823+1; PackageDescription: 8-Pin Plastic Very Very Thin Dual Flatpack No Leads, Body 3 x 2 mm, Exposed Pad 1.63 x 1.75 mm, Pitch 0.5 mm; Supplier 1: Digi-Key; Supplier Part Number 1: MAX6604AATA+T-ND; Supplier 2: Mouser; Supplier Part Number 2: 700-MAX6604AATA+T; Packing: Tape and Reel; Mounting Technology: Surface Mount; Code_JEDEC: MO-229; ComponentLink1Description: Manufacturer URL; ComponentLink1URL: http://www.maximintegrated.com/; ComponentLink2Description: Datasheet; ComponentLink2URL: http://datasheets.maximintegrated.com/en/ds/MAX6604.pdf; ComponentLink3Description: Package Specification; ComponentLink3URL: http://pdfserv.maximintegrated.com/package_dwgs/21-0174.PDF
footprint MAXM-T823+1_V (SON, 8-Leads, Body 3x2mm, Pitch 0.5mm, Thermal Pad 1.75X1.63mm)
pins: 1 A0 (in) "Address Input. Must connect to GND or VCC to set value.", 2 A1 (in) "Address Input. Must connect to GND or VCC to set value.", 3 A2 (in) "Address Input. Must connect to GND or VCC to set value.", 4 GND (power) "Ground", 5 SDA (io) "Serial-Data Input/Output. Open drain. Connect to a pullup resistor.", 6 SCL (in) "Serial-Clock Input. Connect to a pullup resistor.", 7 EVENT (hiz) "Event Output. Open drain. Connect to a pullup resistor.", 8 VCC (power) "Supply Voltage. Connect a 0.1uF capacitor to GND as close as possible to the device.", 9 EP (power) "Exposed Pad (TDFN only). Internally connected to GND. Connect EP to a large PCB ground plane."

## MAX6604ATA+TW
designator U?
Temperature sensor for memory modules, 11 Bits Temperature Resolution, -20 to 125 degC, 8-Pin SON (T823+1), Pb-Free, Tape and Reel; Generic Part Number: MAX6604; PartNumber: MAX6604ATA+TW; Alarm Output: Alert; Interface: 2-Wire/I2C/SMBus; Multi Droppable: Yes; Parasite Pwr.: No; DatasheetVersion: Rev. 3; PackageVersion: Rev. C, 04/2011; PackageReference: T823+1; PackageDescription: 8-Pin Plastic Very Very Thin Dual Flatpack No Leads, Body 3 x 2 mm, Exposed Pad 1.63 x 1.75 mm, Pitch 0.5 mm; Supplier 1: Digi-Key; Supplier Part Number 1: MAX6604ATA+TW-ND; Supplier 2: Mouser; Supplier Part Number 2: 700-MAX6604ATA+TW; Packing: Tape and Reel; Mounting Technology: Surface Mount; Code_JEDEC: MO-229; ComponentLink1Description: Manufacturer URL; ComponentLink1URL: http://www.maximintegrated.com/; ComponentLink2Description: Datasheet; ComponentLink2URL: http://datasheets.maximintegrated.com/en/ds/MAX6604.pdf; ComponentLink3Description: Package Specification; ComponentLink3URL: http://pdfserv.maximintegrated.com/package_dwgs/21-0174.PDF
footprint MAXM-T823+1_V (SON, 8-Leads, Body 3x2mm, Pitch 0.5mm, Thermal Pad 1.75X1.63mm)
pins: 1 A0 (in) "Address Input. Must connect to GND or VCC to set value.", 2 A1 (in) "Address Input. Must connect to GND or VCC to set value.", 3 A2 (in) "Address Input. Must connect to GND or VCC to set value.", 4 GND (power) "Ground", 5 SDA (io) "Serial-Data Input/Output. Open drain. Connect to a pullup resistor.", 6 SCL (in) "Serial-Clock Input. Connect to a pullup resistor.", 7 EVENT (hiz) "Event Output. Open drain. Connect to a pullup resistor.", 8 VCC (power) "Supply Voltage. Connect a 0.1uF capacitor to GND as close as possible to the device.", 9 EP (power) "Exposed Pad (TDFN only). Internally connected to GND. Connect EP to a large PCB ground plane."

## MAX6604ATA-T
designator U?
Temperature sensor for memory modules, 11 Bits Temperature Resolution, -20 to 125 degC, 8-Pin SON (T823-1), Tape and Reel; Generic Part Number: MAX6604; PartNumber: MAX6604ATA-T; Alarm Output: Alert; Interface: 2-Wire/I2C/SMBus; Multi Droppable: Yes; Parasite Pwr.: No; DatasheetVersion: Rev. 3; PackageVersion: Rev. C, 04/2011; PackageReference: T823-1; PackageDescription: 8-Pin Plastic Very Very Thin Dual Flatpack, Exposed Pad, Body 3 x 2 mm, Exposed Pad 1.63 x 1.75 mm, Pitch 0.5 mm; Supplier 1: Mouser; Supplier Part Number 1: N/A; Packing: Tape and Reel; Mounting Technology: Surface Mount; Code_JEDEC: MO-229; ComponentLink1Description: Manufacturer URL; ComponentLink1URL: http://www.maximintegrated.com/; ComponentLink2Description: Datasheet; ComponentLink2URL: http://datasheets.maximintegrated.com/en/ds/MAX6604.pdf; ComponentLink3Description: Package Specification; ComponentLink3URL: http://pdfserv.maximintegrated.com/package_dwgs/21-0174.PDF
footprint MAXM-T823-1_V (SON, 8-Leads, Body 3x2mm, Pitch 0.5mm, Thermal Pad 1.75X1.63mm)
pins: 1 A0 (in) "Address Input. Must connect to GND or VCC to set value.", 2 A1 (in) "Address Input. Must connect to GND or VCC to set value.", 3 A2 (in) "Address Input. Must connect to GND or VCC to set value.", 4 GND (power) "Ground", 5 SDA (io) "Serial-Data Input/Output. Open drain. Connect to a pullup resistor.", 6 SCL (in) "Serial-Clock Input. Connect to a pullup resistor.", 7 EVENT (hiz) "Event Output. Open drain. Connect to a pullup resistor.", 8 VCC (power) "Supply Voltage. Connect a 0.1uF capacitor to GND as close as possible to the device.", 9 EP (power) "Exposed Pad (TDFN only). Internally connected to GND. Connect EP to a large PCB ground plane."

## MAX6605MXK
designator U?
Low-Power Analog Temperature Sensor, -55 to 125 degC, 5-Pin SOT23 (X5-1); Generic Part Number: MAX6605; PartNumber: MAX6605MXK; Parasite Pwr.: No; DatasheetVersion: Rev. 3; PackageVersion: Rev. F, 06/2011; PackageReference: X5-1; PackageDescription: 5-Pin SC70 Transistor Package (X5-1), Body 2 x 1.25 mm, Pitch 0.65 mm; Supplier 1: Mouser; Supplier Part Number 1: N/A; Interface: Analog; Mounting Technology: Surface Mount; Code_JEDEC: MO-203; ComponentLink1Description: Manufacturer URL; ComponentLink1URL: http://www.maximintegrated.com/; ComponentLink2Description: Datasheet; ComponentLink2URL: http://datasheets.maximintegrated.com/en/ds/MAX6605.pdf; ComponentLink3Description: Package Specification; ComponentLink3URL: http://pdfserv.maximintegrated.com/package_dwgs/21-0076.PDF
footprint MAXM-X5-1_N (SOT23, 5-Leads, Body 2x1.25mm, Pitch 0.65mm, IPC Medium Density)
footprint MAXM-X5-1_L (SOT23, 5-Leads, Body 2x1.25mm, Pitch 0.65mm, IPC High Density)
footprint MAXM-X5-1_M (SOT23, 5-Leads, Body 2x1.25mm, Pitch 0.65mm, IPC Low Density)
pins: 1 VCC (power) "Supply Input. Decouple with a 0.1uF capacitor to GND.", 2 A (power) "Must be connected to GND.", 3 OUT (out) "Temperature Sensor Output, CL >= 1nF", 4 B (power) "Must be connected to VCC.", 5 GND (power) "Ground"

## MAX6605MXK+
designator U?
Low-Power Analog Temperature Sensor, -55 to 125 degC, 5-Pin SOT23 (X5+1), Pb-Free; Generic Part Number: MAX6605; PartNumber: MAX6605MXK+; Parasite Pwr.: No; DatasheetVersion: Rev. 3; PackageVersion: Rev. F, 06/2011; PackageReference: X5+1; PackageDescription: 5-Pin SC70 Transistor Package (X5+1), Body 2 x 1.25 mm, Pitch 0.65 mm; Supplier 1: Mouser; Supplier Part Number 1: N/A; Interface: Analog; Mounting Technology: Surface Mount; Code_JEDEC: MO-203; ComponentLink1Description: Manufacturer URL; ComponentLink1URL: http://www.maximintegrated.com/; ComponentLink2Description: Datasheet; ComponentLink2URL: http://datasheets.maximintegrated.com/en/ds/MAX6605.pdf; ComponentLink3Description: Package Specification; ComponentLink3URL: http://pdfserv.maximintegrated.com/package_dwgs/21-0076.PDF
footprint MAXM-X5+1_N (SOT23, 5-Leads, Body 2x1.25mm, Pitch 0.65mm, IPC Medium Density)
footprint MAXM-X5+1_L (SOT23, 5-Leads, Body 2x1.25mm, Pitch 0.65mm, IPC High Density)
footprint MAXM-X5+1_M (SOT23, 5-Leads, Body 2x1.25mm, Pitch 0.65mm, IPC Low Density)
pins: 1 VCC (power) "Supply Input. Decouple with a 0.1uF capacitor to GND.", 2 A (power) "Must be connected to GND.", 3 OUT (out) "Temperature Sensor Output, CL >= 1nF", 4 B (power) "Must be connected to VCC.", 5 GND (power) "Ground"

## MAX6605MXK+T
designator U?
Low-Power Analog Temperature Sensor, -55 to 125 degC, 5-Pin SOT23 (X5+1), Pb-Free, Tape and Reel; Generic Part Number: MAX6605; PartNumber: MAX6605MXK+T; Parasite Pwr.: No; DatasheetVersion: Rev. 3; PackageVersion: Rev. F, 06/2011; PackageReference: X5+1; PackageDescription: 5-Pin SC70 Transistor Package (X5+1), Body 2 x 1.25 mm, Pitch 0.65 mm; Supplier 1: Digi-Key; Supplier Part Number 1: MAX6605MXK+TTR-ND; Supplier 2: Digi-Key; Supplier Part Number 2: MAX6605MXK+TCT-ND; Supplier 3: Digi-Key; Supplier Part Number 3: MAX6605MXK+TDKR-ND; Supplier 4: Mouser; Supplier Part Number 4: 700-MAX6605MXKT; Interface: Analog; Packing: Tape and Reel; Mounting Technology: Surface Mount; Code_JEDEC: MO-203; ComponentLink1Description: Manufacturer URL; ComponentLink1URL: http://www.maximintegrated.com/; ComponentLink2Description: Datasheet; ComponentLink2URL: http://datasheets.maximintegrated.com/en/ds/MAX6605.pdf; ComponentLink3Description: Package Specification; ComponentLink3URL: http://pdfserv.maximintegrated.com/package_dwgs/21-0076.PDF
footprint MAXM-X5+1_N (SOT23, 5-Leads, Body 2x1.25mm, Pitch 0.65mm, IPC Medium Density)
footprint MAXM-X5+1_L (SOT23, 5-Leads, Body 2x1.25mm, Pitch 0.65mm, IPC High Density)
footprint MAXM-X5+1_M (SOT23, 5-Leads, Body 2x1.25mm, Pitch 0.65mm, IPC Low Density)
pins: 1 VCC (power) "Supply Input. Decouple with a 0.1uF capacitor to GND.", 2 A (power) "Must be connected to GND.", 3 OUT (out) "Temperature Sensor Output, CL >= 1nF", 4 B (power) "Must be connected to VCC.", 5 GND (power) "Ground"

## MAX6605MXK-T
designator U?
Low-Power Analog Temperature Sensor, -55 to 125 degC, 5-Pin SOT23 (X5-1), Tape and Reel; Generic Part Number: MAX6605; PartNumber: MAX6605MXK-T; Parasite Pwr.: No; DatasheetVersion: Rev. 3; PackageVersion: Rev. F, 06/2011; PackageReference: X5-1; PackageDescription: 5-Pin SC70 Transistor Package (X5-1), Body 2 x 1.25 mm, Pitch 0.65 mm; Supplier 1: Digi-Key; Supplier Part Number 1: MAX6605MXK-T-ND; Supplier 2: Mouser; Supplier Part Number 2: 700-MAX6605MXK-T-NR; Interface: Analog; Packing: Tape and Reel; Mounting Technology: Surface Mount; Code_JEDEC: MO-203; ComponentLink1Description: Manufacturer URL; ComponentLink1URL: http://www.maximintegrated.com/; ComponentLink2Description: Datasheet; ComponentLink2URL: http://datasheets.maximintegrated.com/en/ds/MAX6605.pdf; ComponentLink3Description: Package Specification; ComponentLink3URL: http://pdfserv.maximintegrated.com/package_dwgs/21-0076.PDF
footprint MAXM-X5-1_N (SOT23, 5-Leads, Body 2x1.25mm, Pitch 0.65mm, IPC Medium Density)
footprint MAXM-X5-1_L (SOT23, 5-Leads, Body 2x1.25mm, Pitch 0.65mm, IPC High Density)
footprint MAXM-X5-1_M (SOT23, 5-Leads, Body 2x1.25mm, Pitch 0.65mm, IPC Low Density)
pins: 1 VCC (power) "Supply Input. Decouple with a 0.1uF capacitor to GND.", 2 A (power) "Must be connected to GND.", 3 OUT (out) "Temperature Sensor Output, CL >= 1nF", 4 B (power) "Must be connected to VCC.", 5 GND (power) "Ground"

## MAX6605MXK/V+T
designator U?
Low-Power Analog Temperature Sensor, -40 to 85 degC, 5-Pin SOT23 (X5+1), Pb-Free, Tape and Reel; Generic Part Number: MAX6605; PartNumber: MAX6605MXK/V+T; Parasite Pwr.: No; DatasheetVersion: Rev. 3; PackageVersion: Rev. F, 06/2011; PackageReference: X5+1; PackageDescription: 5-Pin SC70 Transistor Package (X5+1), Body 2 x 1.25 mm, Pitch 0.65 mm; Supplier 1: Digi-Key; Supplier Part Number 1: MAX6605MXK/V+T-ND; Supplier 2: Mouser; Supplier Part Number 2: 700-MAX6605MXK/V+T; Interface: Analog; Packing: Tape and Reel; Mounting Technology: Surface Mount; Code_JEDEC: MO-203; ComponentLink1Description: Manufacturer URL; ComponentLink1URL: http://www.maximintegrated.com/; ComponentLink2Description: Datasheet; ComponentLink2URL: http://datasheets.maximintegrated.com/en/ds/MAX6605.pdf; ComponentLink3Description: Package Specification; ComponentLink3URL: http://pdfserv.maximintegrated.com/package_dwgs/21-0076.PDF
footprint MAXM-X5+1_N (SOT23, 5-Leads, Body 2x1.25mm, Pitch 0.65mm, IPC Medium Density)
footprint MAXM-X5+1_L (SOT23, 5-Leads, Body 2x1.25mm, Pitch 0.65mm, IPC High Density)
footprint MAXM-X5+1_M (SOT23, 5-Leads, Body 2x1.25mm, Pitch 0.65mm, IPC Low Density)
pins: 1 VCC (power) "Supply Input. Decouple with a 0.1uF capacitor to GND.", 2 A (power) "Must be connected to GND.", 3 OUT (out) "Temperature Sensor Output, CL >= 1nF", 4 B (power) "Must be connected to VCC.", 5 GND (power) "Ground"

## MAX6607IXK+
designator U?
Low-Voltage Analog Temperature Sensor, -20 to 85 degC, 5-Pin SOT23 (X5+1), Pb-Free; Generic Part Number: MAX6607; PartNumber: MAX6607IXK+; Parasite Pwr.: No; DatasheetVersion: Rev. 1; PackageVersion: Rev. F, 06/2011; PackageReference: X5+1; PackageDescription: 5-Pin SC70 Transistor Package (X5+1), Body 2 x 1.25 mm, Pitch 0.65 mm; Supplier 1: Mouser; Supplier Part Number 1: N/A; Interface: Analog; Mounting Technology: Surface Mount; Code_JEDEC: MO-203; ComponentLink1Description: Manufacturer URL; ComponentLink1URL: http://www.maximintegrated.com/; ComponentLink2Description: Datasheet; ComponentLink2URL: http://datasheets.maximintegrated.com/en/ds/MAX6607-MAX6608.pdf; ComponentLink3Description: Package Specification; ComponentLink3URL: http://pdfserv.maximintegrated.com/package_dwgs/21-0076.PDF
footprint MAXM-X5+1_N (SOT23, 5-Leads, Body 2x1.25mm, Pitch 0.65mm, IPC Medium Density)
footprint MAXM-X5+1_L (SOT23, 5-Leads, Body 2x1.25mm, Pitch 0.65mm, IPC High Density)
footprint MAXM-X5+1_M (SOT23, 5-Leads, Body 2x1.25mm, Pitch 0.65mm, IPC Low Density)
pins: 1 OUT (out) "Temperature Sensor Output", 2 NC "Not Connected", 3 A (power) "Must be connected to GND.", 4 VCC (power) "Supply Input. Decouple with a 0.1uF capacitor to GND.", 5 GND (power) "Ground"